# EAGLE library part TSW-S-35 (library con-samtec-tsw)
HEADER
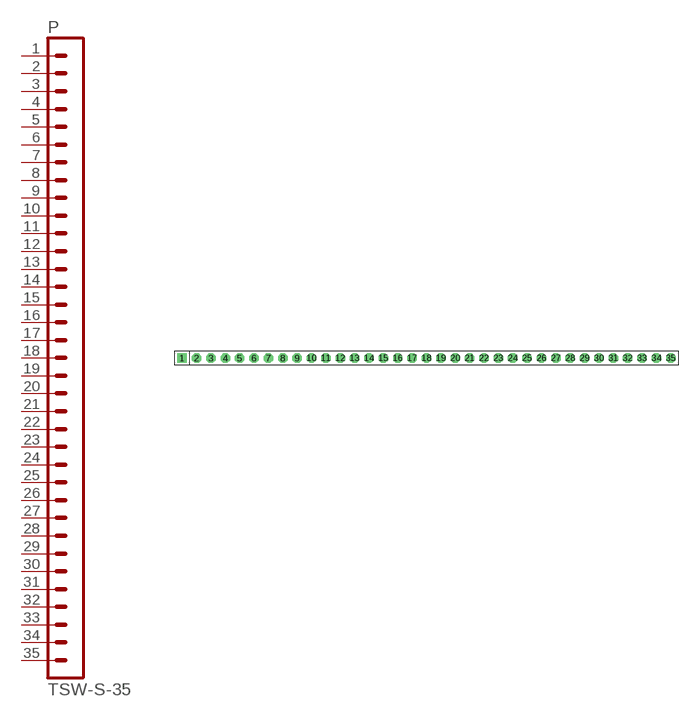
[diagram p29: symbol with the pads of TSW-S-35; footprint TSW-S-35]

Designator prefix P

## TSW-S-35  [TSW-S-35]
1  1  pas
2  2  pas
3  3  pas
4  4  pas
5  5  pas
6  6  pas
7  7  pas
8  8  pas
9  9  pas
10  10  pas
11  11  pas
12  12  pas
13  13  pas
14  14  pas
15  15  pas
16  16  pas
17  17  pas
18  18  pas
19  19  pas
20  20  pas
21  21  pas
22  22  pas
23  23  pas
24  24  pas
25  25  pas
26  26  pas
27  27  pas
28  28  pas
29  29  pas
30  30  pas
31  31  pas
32  32  pas
33  33  pas
34  34  pas
35  35  pas

## Footprint TSW-S-35 (pad centres in mm)
HEADER
drill 0.914 pad 1.676 square: 1 -43.18,0
drill 0.914 pad 1.676 octagon: 2 -40.64,0; 3 -38.1,0; 4 -35.56,0; 5 -33.02,0; 6 -30.48,0; 7 -27.94,0; 8 -25.4,0; 9 -22.86,0; 10 -20.32,0; 11 -17.78,0; 12 -15.24,0; 13 -12.7,0; 14 -10.16,0; 15 -7.62,0; 16 -5.08,0; 17 -2.54,0; 18 0,0; 19 2.54,0; 20 5.08,0; 21 7.62,0; 22 10.16,0; 23 12.7,0; 24 15.24,0; 25 17.78,0; 26 20.32,0; 27 22.86,0; 28 25.4,0; 29 27.94,0; 30 30.48,0; 31 33.02,0; 32 35.56,0; 33 38.1,0; 34 40.64,0; 35 43.18,0